# EAGLE library part WBL-2U (library switch-e-switch)
2PDT PUSHBUTTON SWITCH
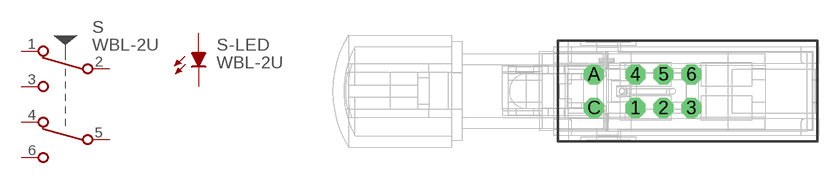
[diagram p2: symbol with the pads of WBL-2U; footprint WBL-2U]

Designator prefix S; gates -LED=LED G$1=2PDT-PV

## WBL-2U  [WBL-2U]
1  G$1:A-NC  pas
2  G$1:A-COM  pas
3  G$1:A-NO  pas
4  G$1:B-NC  pas
5  G$1:B-COM  pas
6  G$1:B-NO  pas
A  -LED:A  pas
C  -LED:C  pas

## Footprint WBL-2U (pad centres in mm)
PUSH BUTTON SWITCH 2PDT w/LED
drill 0.813 pad 1.778 octagon: 1 -2.5,-1.5; 2 0,-1.5; 3 2.5,-1.5; 4 -2.5,1.5; 5 0,1.5; 6 2.5,1.5; A -6.2,1.5; C -6.2,-1.5